# Altium schematic symbol library lib_for_test_work.SchLib: 17 symbols
Pins are listed as number, name and electrical type; pins without a type are passive.

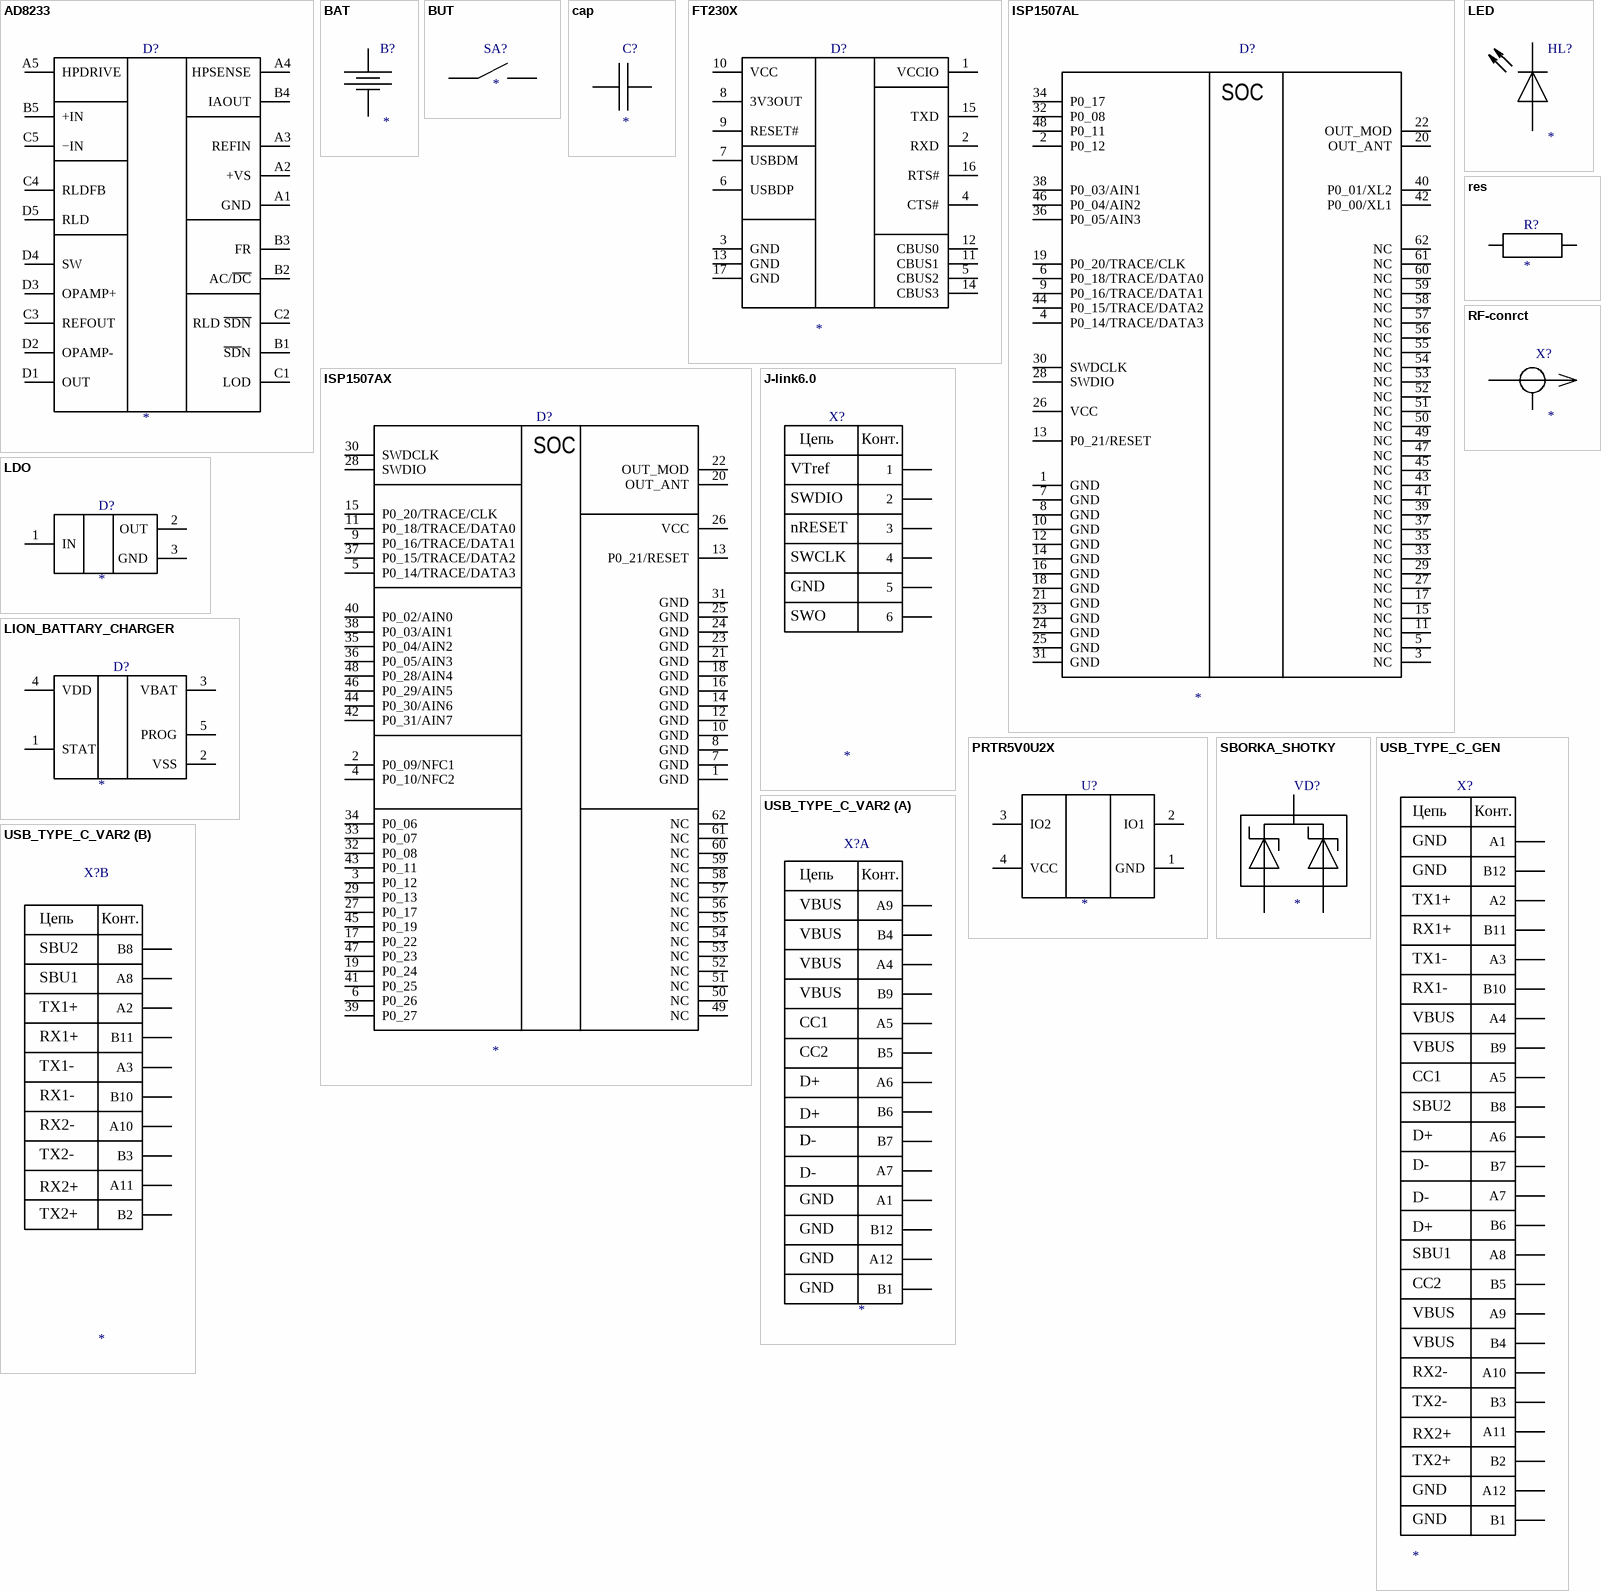
[diagram p0: symbols AD8233 to USB_TYPE_C_VAR2]

## AD8233
designator D?
pins: A1 GND, A2 +VS, A3 REFIN, A4 HPSENSE, A5 HPDRIVE, B1 ~{SD}N, B2 AC/~{DC}, B3 FR, B4 IAOUT, B5 +IN, C1 LOD, C2 RLD ~{SDN}, C3 REFOUT, C4 RLDFB, C5 −IN, D1 OUT, D2 OPAMP-, D3 OPAMP+, D4 SW, D5 RLD

## BAT
designator B?
pins: 1, 2

## BUT
designator SA?
pins: 1, 2

## cap
designator C?
pins: 1, 2

## FT230X
designator D?
pins: 1 VCCIO, 2 RXD, 3 GND, 4 CTS#, 5 CBUS2, 6 USBDP, 7 USBDM, 8 3V3OUT, 9 RESET#, 10 VCC, 11 CBUS1, 12 CBUS0, 13 GND, 14 CBUS3, 15 TXD, 16 RTS#, 17 GND

## ISP1507AL
designator D?
pins: 1 GND, 2 P0_12, 3 NC, 4 P0_14/TRACE/DATA3, 5 NC, 6 P0_18/TRACE/DATA0, 7 GND, 8 GND, 9 P0_16/TRACE/DATA1, 10 GND, 11 NC, 12 GND, 13 P0_21/RESET, 14 GND, 15 NC, 16 GND, 17 NC, 18 GND, 19 P0_20/TRACE/CLK, 20 OUT_ANT, 21 GND, 22 OUT_MOD, 23 GND, 24 GND, 25 GND, 26 VCC, 27 NC, 28 SWDIO, 29 NC, 30 SWDCLK, 31 GND, 32 P0_08, 33 NC, 34 P0_17, 35 NC, 36 P0_05/AIN3, 37 NC, 38 P0_03/AIN1, 39 NC, 40 P0_01/XL2, 41 NC, 42 P0_00/XL1, 43 NC, 44 P0_15/TRACE/DATA2, 45 NC, 46 P0_04/AIN2, 47 NC, 48 P0_11, 49 NC, 50 NC, 51 NC, 52 NC, 53 NC, 54 NC, 55 NC, 56 NC, 57 NC, 58 NC, 59 NC, 60 NC, 61 NC, 62 NC
text: SOC

## ISP1507AX
designator D?
pins: 1 GND, 2 P0_09/NFC1, 3 P0_12, 4 P0_10/NFC2, 5 P0_14/TRACE/DATA3, 6 P0_26, 7 GND, 8 GND, 9 P0_16/TRACE/DATA1, 10 GND, 11 P0_18/TRACE/DATA0, 12 GND, 13 P0_21/RESET, 14 GND, 15 P0_20/TRACE/CLK, 16 GND, 17 P0_22, 18 GND, 19 P0_24, 20 OUT_ANT, 21 GND, 22 OUT_MOD, 23 GND, 24 GND, 25 GND, 26 VCC, 27 P0_17, 28 SWDIO, 29 P0_13, 30 SWDCLK, 31 GND, 32 P0_08, 33 P0_07, 34 P0_06, 35 P0_04/AIN2, 36 P0_05/AIN3, 37 P0_15/TRACE/DATA2, 38 P0_03/AIN1, 39 P0_27, 40 P0_02/AIN0, 41 P0_25, 42 P0_31/AIN7, 43 P0_11, 44 P0_30/AIN6, 45 P0_19, 46 P0_29/AIN5, 47 P0_23, 48 P0_28/AIN4, 49 NC, 50 NC, 51 NC, 52 NC, 53 NC, 54 NC, 55 NC, 56 NC, 57 NC, 58 NC, 59 NC, 60 NC, 61 NC, 62 NC
text: SOC

## J-link6.0
designator X?
pins: 1, 2, 3, 4, 5, 6
text: Цепь; Конт.; VTref; SWDIO; nRESET; SWCLK; GND; SWO

## LDO
designator D?
pins: 1 IN, 2 OUT, 3 GND

## LED
designator HL?
pins: 1 A, 2 K

## LION_BATTARY_CHARGER
designator D?
pins: 1 STAT, 2 VSS, 3 VBAT, 4 VDD, 5 PROG

## PRTR5V0U2X
designator U?
pins: 1 GND, 2 IO1, 3 IO2, 4 VCC

## res
designator R?
pins: 1, 2

## RF-conrct
designator X?
pins: 1, 2

## SBORKA_SHOTKY
designator VD?
pins: 1, A, K

## USB_TYPE_C_GEN
designator X?
pins: A1, A2, A3, A4, A5, A6, A7, A8, A9, A10, A11, A12, B1, B2, B3, B4, B5, B6, B7, B8, B9, B10, B11, B12
text: Цепь; Конт.; GND; TX1+; RX1+; TX1-; RX1-; VBUS; CC1; SBU2; D+; D-; SBU1; CC2; RX2-; TX2-; RX2+; TX2+

## USB_TYPE_C_VAR2
designator X?
part A pins: A1, A4, A5, A6, A7, A9, A12, B1, B4, B5, B6, B7, B9, B12
part B pins: A2, A3, A8, A10, A11, B2, B3, B8, B10, B11
part A text: Цепь; Конт.; VBUS; CC1; CC2; D+; D-; GND
part B text: Цепь; Конт.; SBU2; SBU1; TX1+; RX1+; TX1-; RX1-; RX2-; TX2-; RX2+; TX2+